# EAGLE library part CY7C1347G (library ic-Cypress)
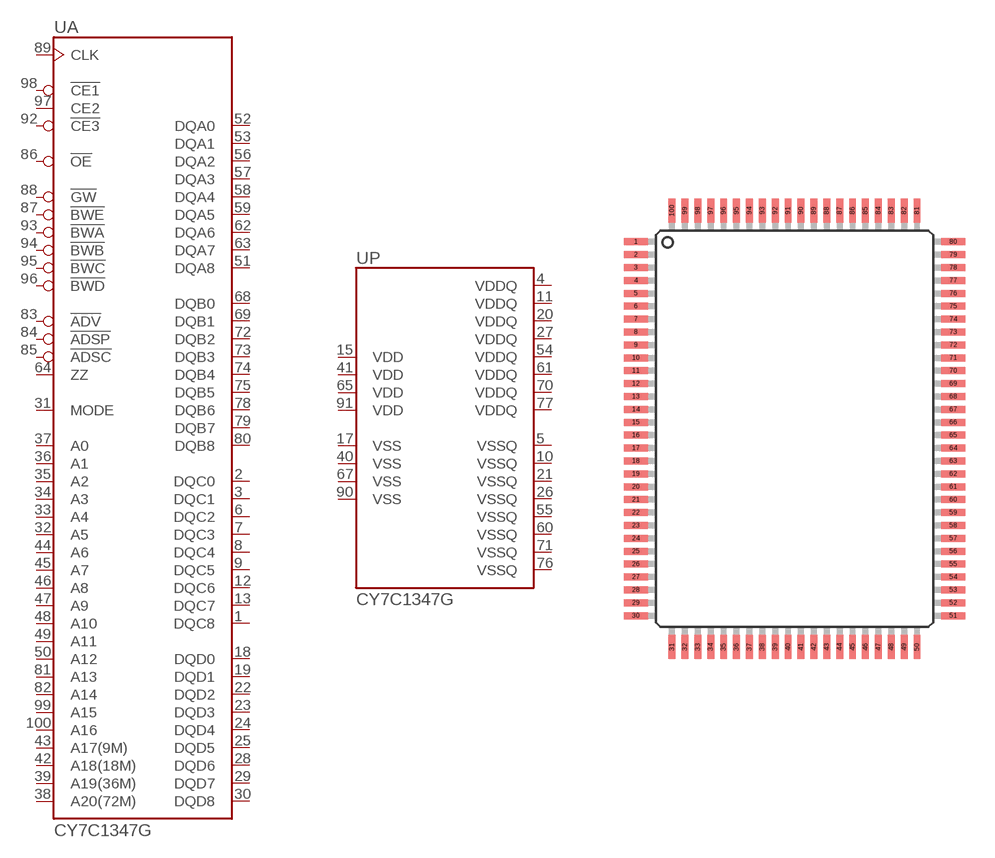
[diagram p0: symbol with the pads of QFP100-0.65; footprint QFP100-0.65]

Designator prefix U; gates A=CY7C1347G P=CY7C1347G_PWR

## CY7C1347G-250AX  [QFP100-0.65]
1  A:DQC8
2  A:DQC0
3  A:DQC1
4  P:VDDQ
5  P:VSSQ
6  A:DQC2
7  A:DQC3
8  A:DQC4
9  A:DQC5
10  P:VSSQ
11  P:VDDQ
12  A:DQC6
13  A:DQC7
15  P:VDD
17  P:VSS
18  A:DQD0
19  A:DQD1
20  P:VDDQ
21  P:VSSQ
22  A:DQD2
23  A:DQD3
24  A:DQD4
25  A:DQD5
26  P:VSSQ
27  P:VDDQ
28  A:DQD6
29  A:DQD7
30  A:DQD8
31  A:MODE
32  A:A5
33  A:A4
34  A:A3
35  A:A2
36  A:A1
37  A:A0
38  A:A20(72M)
39  A:A19(36M)
40  P:VSS
41  P:VDD
42  A:A18(18M)
43  A:A17(9M)
44  A:A6
45  A:A7
46  A:A8
47  A:A9
48  A:A10
49  A:A11
50  A:A12
51  A:DQA8
52  A:DQA0
53  A:DQA1
54  P:VDDQ
55  P:VSSQ
56  A:DQA2
57  A:DQA3
58  A:DQA4
59  A:DQA5
60  P:VSSQ
61  P:VDDQ
62  A:DQA6
63  A:DQA7
64  A:ZZ
65  P:VDD
67  P:VSS
68  A:DQB0
69  A:DQB1
70  P:VDDQ
71  P:VSSQ
72  A:DQB2
73  A:DQB3
74  A:DQB4
75  A:DQB5
76  P:VSSQ
77  P:VDDQ
78  A:DQB6
79  A:DQB7
80  A:DQB8
81  A:A13
82  A:A14
83  A:!ADV
84  A:!ADSP
85  A:!ADSC
86  A:!OE
87  A:!BWE
88  A:!GW
89  A:CLK
90  P:VSS
91  P:VDD
92  A:!CE3
93  A:!BWA
94  A:!BWB
95  A:!BWC
96  A:!BWD
97  A:CE2
98  A:!CE1
99  A:A15
100  A:A16

## Footprint QFP100-0.65 (pad centres in mm)
smd 1.2 x 0.35: 1 -8,9.425; 2 -8,8.775; 3 -8,8.125; 4 -8,7.475; 5 -8,6.825; 6 -8,6.175; 7 -8,5.525; 8 -8,4.875; 9 -8,4.225; 10 -8,3.575; 11 -8,2.925; 12 -8,2.275; 13 -8,1.625; 14 -8,0.975; 15 -8,0.325; 16 -8,-0.325; 17 -8,-0.975; 18 -8,-1.625; 19 -8,-2.275; 20 -8,-2.925; 21 -8,-3.575; 22 -8,-4.225; 23 -8,-4.875; 24 -8,-5.525; 25 -8,-6.175; 26 -8,-6.825; 27 -8,-7.475; 28 -8,-8.125; 29 -8,-8.775; 30 -8,-9.425; 51 8,-9.425; 52 8,-8.775; 53 8,-8.125; 54 8,-7.475; 55 8,-6.825; 56 8,-6.175; 57 8,-5.525; 58 8,-4.875; 59 8,-4.225; 60 8,-3.575; 61 8,-2.925; 62 8,-2.275; 63 8,-1.625; 64 8,-0.975; 65 8,-0.325; 66 8,0.325; 67 8,0.975; 68 8,1.625; 69 8,2.275; 70 8,2.925; 71 8,3.575; 72 8,4.225; 73 8,4.875; 74 8,5.525; 75 8,6.175; 76 8,6.825; 77 8,7.475; 78 8,8.125; 79 8,8.775; 80 8,9.425
smd 0.35 x 1.2: 31 -6.175,-11; 32 -5.525,-11; 33 -4.875,-11; 34 -4.225,-11; 35 -3.575,-11; 36 -2.925,-11; 37 -2.275,-11; 38 -1.625,-11; 39 -0.975,-11; 40 -0.325,-11; 41 0.325,-11; 42 0.975,-11; 43 1.625,-11; 44 2.275,-11; 45 2.925,-11; 46 3.575,-11; 47 4.225,-11; 48 4.875,-11; 49 5.525,-11; 50 6.175,-11; 81 6.175,11; 82 5.525,11; 83 4.875,11; 84 4.225,11; 85 3.575,11; 86 2.925,11; 87 2.275,11; 88 1.625,11; 89 0.975,11; 90 0.325,11; 91 -0.325,11; 92 -0.975,11; 93 -1.625,11; 94 -2.275,11; 95 -2.925,11; 96 -3.575,11; 97 -4.225,11; 98 -4.875,11; 99 -5.525,11; 100 -6.175,11